# EAGLE library part SC16IS752 (library Eagle_CAD_parts)
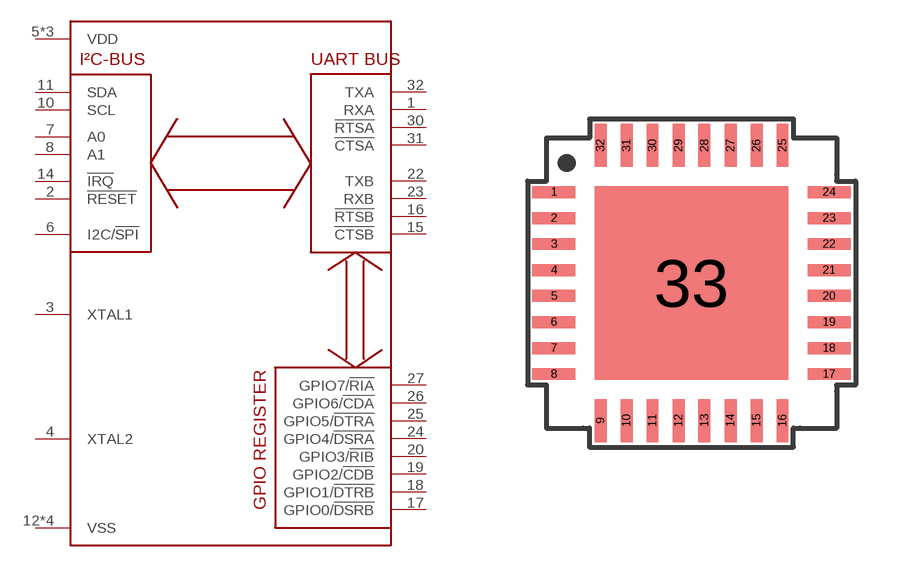
[diagram p34: symbol with the pads of 32-HVQFN; footprint 32-HVQFN]

Designator prefix U

## SC16IS752  [32-HVQFN]
1  RXA
2  !RESET
3  XTAL1
4  XTAL2
5  VDD
6  I2C/!SPI
7  A0
8  A1
10  SCL
11  SDA
12  VSS
13  VDD
14  !IRQ
15  !CTSB
16  !RTSB
17  GPIO0/!DSRB
18  GPIO1/!DTRB
19  GPIO2/!CDB
20  GPIO3/!RIB
21  VSS
22  TXB
23  RXB
24  GPIO4/!DSRA
25  GPIO5/!DTRA
26  GPIO6/!CDA
27  GPIO7/!RIA
28  VDD
29  VSS
30  !RTSA
31  !CTSA
32  TXA
33  VSS

## Footprint 32-HVQFN (pad centres in mm)
smd 1.075 x 0.3: 1 -3.438,2.275; 2 -3.438,1.625; 3 -3.438,0.975; 4 -3.438,0.325; 5 -3.438,-0.325; 6 -3.438,-0.975; 7 -3.438,-1.625; 8 -3.438,-2.275; 17 3.438,-2.275; 18 3.438,-1.625; 19 3.438,-0.975; 20 3.438,-0.325; 21 3.438,0.325; 22 3.438,0.975; 23 3.438,1.625; 24 3.438,2.275
smd 0.3 x 1.075: 9 -2.275,-3.438; 10 -1.625,-3.438; 11 -0.975,-3.438; 12 -0.325,-3.438; 13 0.325,-3.438; 14 0.975,-3.438; 15 1.625,-3.438; 16 2.275,-3.438; 25 2.275,3.438; 26 1.625,3.438; 27 0.975,3.438; 28 0.325,3.438; 29 -0.325,3.438; 30 -0.975,3.438; 31 -1.625,3.438; 32 -2.275,3.438
smd 4.85 x 4.85: 33 0,0